# EAGLE library part ICE40LP384-SG32 (library Semiconductors > Embedded Processors & Controllers > FPGA - Field Programmable Gate Array)
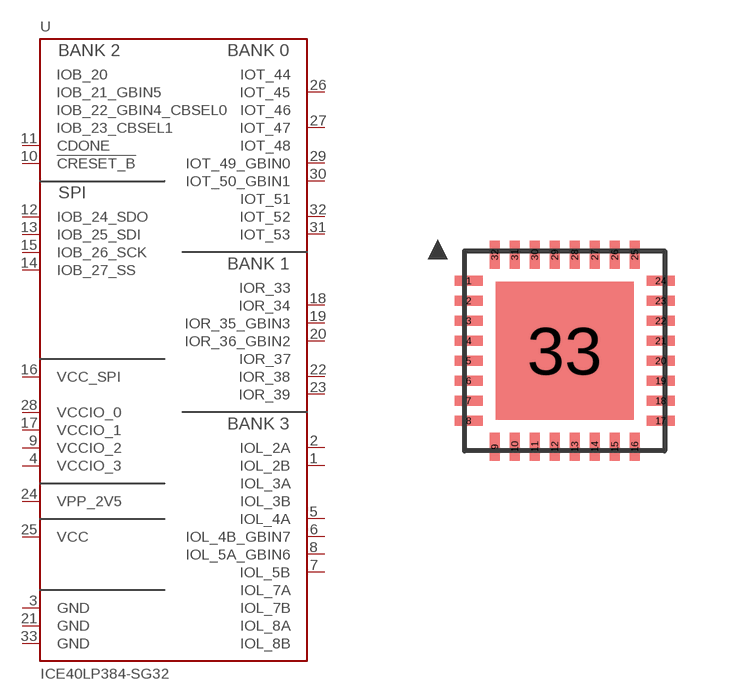
[diagram p0: symbol with the pads of QFN32; footprint QFN32]

Designator prefix U

## ICE40LP384-SG32  [QFN32]
1  IOL_2B
2  IOL_2A
3  GND
4  VCCIO_3
5  IOL_4A
6  IOL_4B_GBIN7
7  IOL_5B
8  IOL_5A_GBIN6
9  VCCIO_2
10  !CRESET_B
11  CDONE
12  IOB_24_SDO
13  IOB_25_SDI
14  IOB_27_SS
15  IOB_26_SCK
16  VCC_SPI
17  VCCIO_1
18  IOR_34
19  IOR_35_GBIN3
20  IOR_36_GBIN2
21  GND
22  IOR_38
23  IOR_39
24  VPP_2V5
25  VCC
26  IOT_45
27  IOT_47
28  VCCIO_0
29  IOT_49_GBIN0
30  IOT_50_GBIN1
31  IOT_53
32  IOT_52
33  GND

## Footprint QFN32 (pad centres in mm)
smd 0.7 x 0.25: 1 -2.4,1.75; 2 -2.4,1.25; 3 -2.4,0.75; 4 -2.4,0.25; 5 -2.4,-0.25; 6 -2.4,-0.75; 7 -2.4,-1.25; 8 -2.4,-1.75; 17 2.4,-1.75; 18 2.4,-1.25; 19 2.4,-0.75; 20 2.4,-0.25; 21 2.4,0.25; 22 2.4,0.75; 23 2.4,1.25; 24 2.4,1.75
smd 0.25 x 0.7: 9 -1.75,-2.4; 10 -1.25,-2.4; 11 -0.75,-2.4; 12 -0.25,-2.4; 13 0.25,-2.4; 14 0.75,-2.4; 15 1.25,-2.4; 16 1.75,-2.4; 25 1.75,2.4; 26 1.25,2.4; 27 0.75,2.4; 28 0.25,2.4; 29 -0.25,2.4; 30 -0.75,2.4; 31 -1.25,2.4; 32 -1.75,2.4
smd 3.45 x 3.45: 33 0,0